# Altium schematic symbol library ACSC56-41SEKWA.SchLib: 1 symbol
Pins are listed as number, name and electrical type; pins without a type are passive.

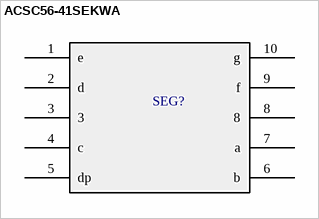
[diagram p0: symbol ACSC56-41SEKWA]

## ACSC56-41SEKWA
designator SEG?
SMD 7-Segment Display
footprint ACSC56-41SEKWA
pins: 1 e, 2 d, 3, 4 c, 5 dp, 6 b, 7 a, 8, 9 f, 10 g